# Altium footprint library User_Library.PcbLib: 2 footprints
Each footprint in its own frame and in the unit in brackets; x right, y up, seen from the top. Pads: shape width x height; smd on the part's side, far side on the other; paste and mask are expansions set on the pad; w line width, h text height; cw(c..) or ccw(c..) is an arc to the next point about the centre after c.
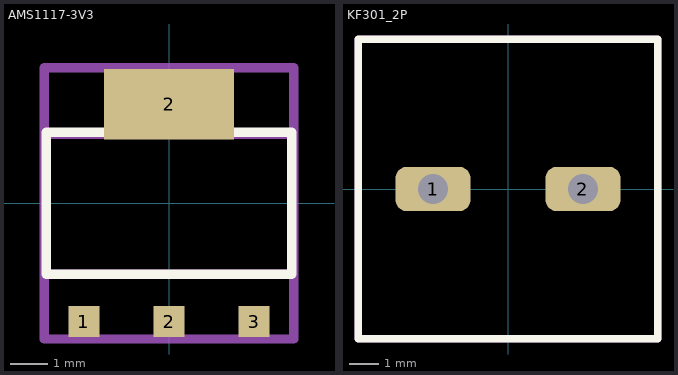
[diagram p0: the footprints below, top view; thin cyan lines are the x and y axes]

## AMS1117-3V3 [mm] "low-dropout (LDO) linear voltage regulator available in fixed and adjustable output versions, designed for reliable low-voltage regulation up to 1A."
pads (4):
  rect 0.84x0.84 smd: 1(-2.286,-3.175) 2(0,-3.175) 3(2.286,-3.175)
  rect 3.5x1.9 smd: 2(0,2.667)
Top Overlay:
  lines w0.254: -3.302,-1.905 3.302,-1.905 3.302,1.905 -3.302,1.905 -3.302,-1.905
Mechanical 1:
  lines w0.254: 0,3.645 -3.355,3.645 ; 3.302,-1.905 -3.355,-1.905 -3.355,0 -3.355,1.855 3.302,1.855 ; -3.355,3.645 3.355,3.645 3.355,-3.645 -3.355,-3.645 -3.355,3.645
3D body "SOT-223.step": height 1.6, standoff -0.1, extent -3.15,-3.5 3.15,3.5

## KF301_2P [mm]
pads (2):
  rrect50% 2.54x1.5 hole 1: 1(-2.54,0) 2(2.54,0)
Top Overlay:
  lines w0.254: -5.08,-5.08 5.08,-5.08 5.08,5.08 -5.08,5.08 -5.08,-5.08
Mechanical 1:
  lines w0.254: -5.08,-5.08 5.08,-5.08 5.08,5.08 -5.08,5.08 -5.08,-5.08
3D body "KF301-2P--3DModel-STEP-510211 (1).STEP": height 9.4, standoff -5.1, extent -4.919,-4.191 5.681,3.309